# Altium integrated library NDK.IntLib: 14 symbols
Pins are listed as number, name and electrical type; pins without a type are passive.

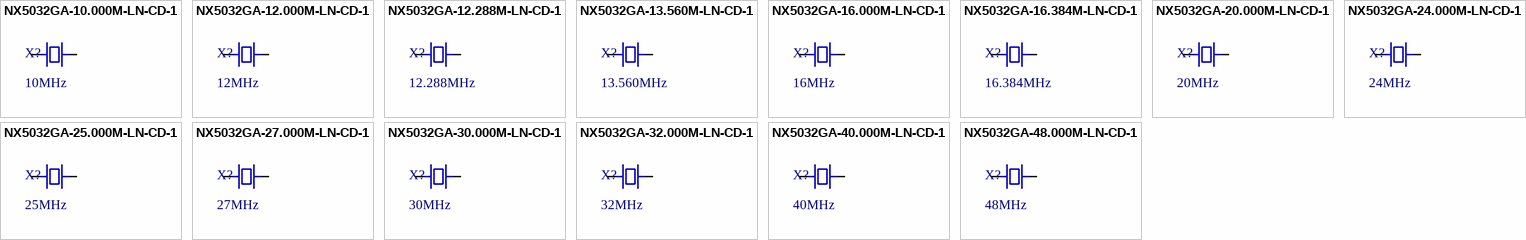
[diagram p0: symbols NX5032GA-10.000M-LN-CD-1 to NX5032GA-48.000M-LN-CD-1]

## NX5032GA-10.000M-LN-CD-1
designator X?, comment 10MHz
NX5032GA-10.000M-LN-CD-1
footprint NX5032GA
pins: 1, 2

## NX5032GA-12.000M-LN-CD-1
designator X?, comment 12MHz
NX5032GA-12.000M-LN-CD-1
footprint NX5032GA
pins: 1, 2

## NX5032GA-12.288M-LN-CD-1
designator X?, comment 12.288MHz
NX5032GA-12.288M-LN-CD-1
footprint NX5032GA
pins: 1, 2

## NX5032GA-13.560M-LN-CD-1
designator X?, comment 13.560MHz
NX5032GA-13.560M-LN-CD-1
footprint NX5032GA
pins: 1, 2

## NX5032GA-16.000M-LN-CD-1
designator X?, comment 16MHz
NX5032GA-16.000M-LN-CD-1
footprint NX5032GA
pins: 1, 2

## NX5032GA-16.384M-LN-CD-1
designator X?, comment 16.384MHz
NX5032GA-16.384M-LN-CD-1
footprint NX5032GA
pins: 1, 2

## NX5032GA-20.000M-LN-CD-1
designator X?, comment 20MHz
NX5032GA-20.000M-LN-CD-1
footprint NX5032GA
pins: 1, 2

## NX5032GA-24.000M-LN-CD-1
designator X?, comment 24MHz
NX5032GA-24.000M-LN-CD-1
footprint NX5032GA
pins: 1, 2

## NX5032GA-25.000M-LN-CD-1
designator X?, comment 25MHz
NX5032GA-25.000M-LN-CD-1
footprint NX5032GA
pins: 1, 2

## NX5032GA-27.000M-LN-CD-1
designator X?, comment 27MHz
NX5032GA-27.000M-LN-CD-1
footprint NX5032GA
pins: 1, 2

## NX5032GA-30.000M-LN-CD-1
designator X?, comment 30MHz
NX5032GA-30.000M-LN-CD-1
footprint NX5032GA
pins: 1, 2

## NX5032GA-32.000M-LN-CD-1
designator X?, comment 32MHz
NX5032GA-32.000M-LN-CD-1
footprint NX5032GA
pins: 1, 2

## NX5032GA-40.000M-LN-CD-1
designator X?, comment 40MHz
NX5032GA-40.000M-LN-CD-1
footprint NX5032GA
pins: 1, 2

## NX5032GA-48.000M-LN-CD-1
designator X?, comment 48MHz
NX5032GA-48.000M-LN-CD-1
footprint NX5032GA
pins: 1, 2